# EAGLE library part HCNR200 (library Small Antenna V2.1)
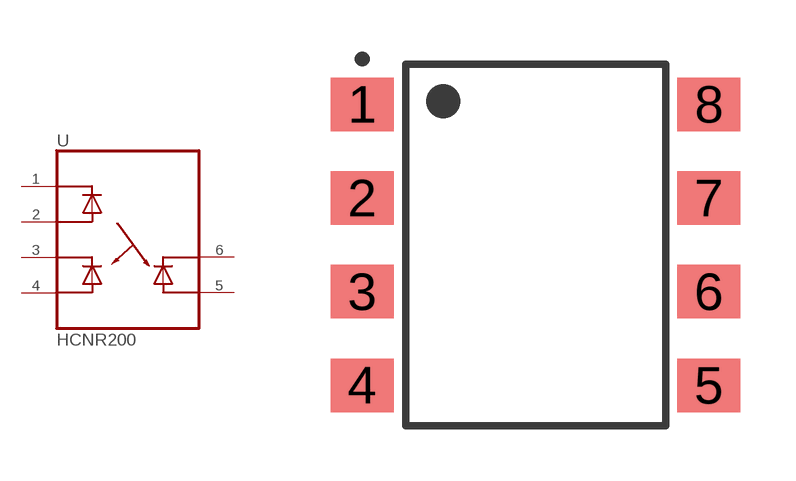
[diagram p0: symbol with the pads of SOIC254P1030X390-8N; footprint SOIC254P1030X390-8N]

Designator prefix -

## HCNR200  [SOIC254P1030X390-8N]
1  C1  pas
2  A1  pas
3  C2  pas
4  A2  pas
5  A3  pas
6  C3  pas

## Footprint SOIC254P1030X390-8N (pad centres in mm)
smd 1.7 x 1.45: 1 -4.7,3.81; 2 -4.7,1.27; 3 -4.7,-1.27; 4 -4.7,-3.81; 5 4.7,-3.81; 6 4.7,-1.27; 7 4.7,1.27; 8 4.7,3.81